# Altium footprint library QFN50P500X500X100_HS-28L.PcbLib: 1 footprints
Each footprint in its own frame and in the unit in brackets; x right, y up, seen from the top. Pads: shape width x height; smd on the part's side, far side on the other; paste and mask are expansions set on the pad; w line width, h text height; cw(c..) or ccw(c..) is an arc to the next point about the centre after c.
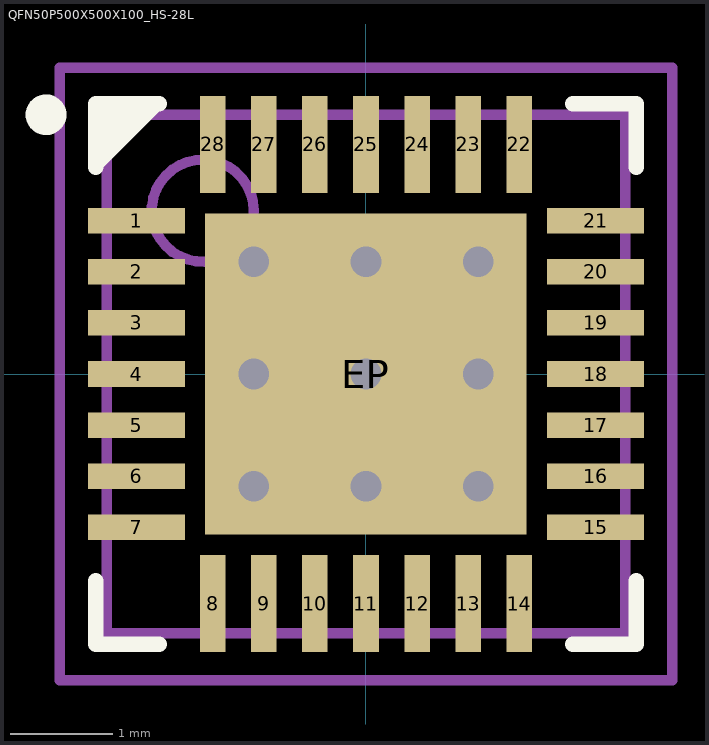
[diagram p0: the footprint, top view; thin cyan lines are the x and y axes]

## QFN50P500X500X100_HS-28L [mm] "QFN, 28-Leads, Body 5.00x5.00mm, Pitch 0.50mm, Thermal Pad 3.15x3.15mm, IPC High Density"
height 1
pads (29):
  rect 0.95x0.25 smd: 1(-2.25,1.5) 2(-2.25,1) 3(-2.25,0.5) 4(-2.25,0) 5(-2.25,-0.5) 6(-2.25,-1) 7(-2.25,-1.5) 15(2.25,-1.5) 16(2.25,-1) 17(2.25,-0.5) 18(2.25,0) 19(2.25,0.5) 20(2.25,1) 21(2.25,1.5)
  rect 0.25x0.95 smd: 8(-1.5,-2.25) 9(-1,-2.25) 10(-0.5,-2.25) 11(0,-2.25) 12(0.5,-2.25) 13(1,-2.25) 14(1.5,-2.25) 22(1.5,2.25) 23(1,2.25) 24(0.5,2.25) 25(0,2.25) 26(-0.5,2.25) 27(-1,2.25) 28(-1.5,2.25)
  rect 3.15x3.15 smd: EP(0,0)
via -1.1,1.1 diameter 0.6 hole 0.3
via 0,1.1 diameter 0.6 hole 0.3
via 1.1,1.1 diameter 0.6 hole 0.3
via -1.1,0 diameter 0.6 hole 0.3
via 0,0 diameter 0.6 hole 0.3
via 1.1,0 diameter 0.6 hole 0.3
via -1.1,-1.1 diameter 0.6 hole 0.3
via 0,-1.1 diameter 0.6 hole 0.3
via 1.1,-1.1 diameter 0.6 hole 0.3
Top Overlay:
  circle w0.2: c-3.135,2.54 r0.1
  region: -2.65,2.65 -2.65,1.95 -1.95,2.65
  lines w0.152: -2.65,-2.025 -2.65,-2.65 -2.025,-2.65 ; -2.65,2.025 -2.65,2.65 -2.025,2.65 ; 2.025,-2.65 2.65,-2.65 2.65,-2.025 ; 2.025,2.65 2.65,2.65 2.65,2.025
Mechanical 13:
  circle w0.1: c-1.6,1.6 r0.5
  lines w0.1: -2.54,-2.54 2.54,-2.54 2.54,2.54 -2.54,2.54 -2.54,-2.54
Mechanical 15:
  lines w0.1: -0.5,0 0.5,0 ; 0,-0.5 0,0.5 ; -3,-3 -3,3 3,3 3,-3 -3,-3
3D body: height 1, standoff 0, extent -2.58,-2.58 2.58,2.58